# EAGLE library part 0826-1X1T-GJ-F (library 0826-1X1T-GJ-F)
Magjack POE+ 10/100 tab up Y/GO LEDS Bel-Stewart MagJack, RJ45 Modular Jack Socket, STP, Straight, Through Hole Source: Datasheet <http://uk.rs-online.com/web/p/products/7418562>
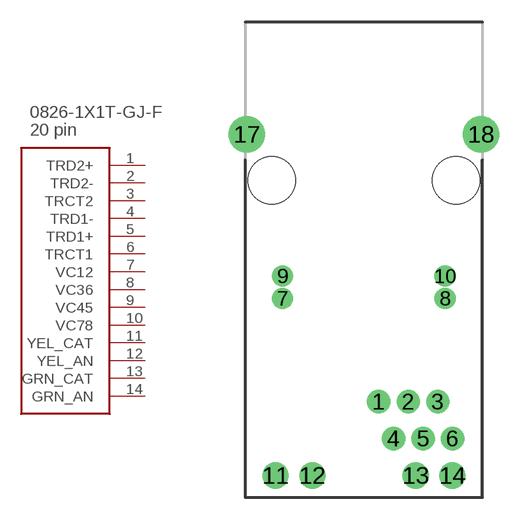
[diagram p0: symbol with the pads of 0826-1X1T-GJ-F; footprint 0826-1X1T-GJ-F]

Designator prefix J

## 0826-1X1T-GJ-F (ALLIED_NUMBER: R1013706; ALLIED_PRICE-STOCK: https://www.alliedelec.com/stewart-connectors-0826-1x1t-gj-f/R1013706/; DESCRIPTION: Magjack POE+ 10/100 tab up Y/GO LEDS Bel-Stewart MagJack, RJ45 Modular Jack Socket, STP, Straight, Through Hole; HEIGHT: mm; MANUFACTURER_NAME: Bel-Stewart; MANUFACTURER_PART_NUMBER: 0826-1X1T-GJ-F; MOUSER_PART_NUMBER: 530-0826-1X1T-GJ-F; RS_PART_NUMBER: 7418562; RS_PRICE-STOCK: https://uk.rs-online.com/web/p/products/7418562)  [0826-1X1T-GJ-F]
1  TRD2+
2  TRD2-
3  TRCT2
4  TRD1-
5  TRD1+
6  TRCT1
7  VC12
8  VC36
9  VC45
10  VC78
11  YEL_CAT
12  YEL_AN
13  GRN_CAT
14  GRN_AN

## Footprint 0826-1X1T-GJ-F (pad centres in mm)
0826-1X1T-GJ-F
drill 1.02 pad 1.6: 1 1.025,-26.16; 2 3.055,-26.16; 3 5.085,-26.16; 4 2.04,-28.7; 5 4.07,-28.7; 6 6.1,-28.7
drill 0.89 pad 1.45: 7 -5.59,-19.05; 8 5.59,-19.05; 9 -5.59,-17.51; 10 5.59,-17.51
drill 1.15 pad 1.8: 11 -6.09,-31.24; 12 -3.55,-31.24; 13 3.56,-31.24; 14 6.1,-31.24
drill 1.57 pad 2.5: 17 -8.065,-7.75; 18 8.065,-7.75
hole 3.25 at -6.35,-10.92
hole 3.25 at 6.35,-10.92